# EAGLE library part BQ24202 (library components)
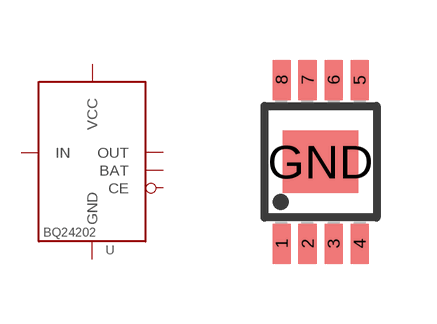
[diagram p10: symbol with the pads of MSOP8; footprint MSOP8]

Designator prefix -

## BQ24202  [MSOP8]
1  IN
2  VCC
4  GND
6  CE
7  BAT
8  OUT
GND  GND

## Footprint MSOP8 (pad centres in mm)
Micro Small Outline Package Grid .65mm
smd 0.45 x 1: 1 -0.975,-2.05; 2 -0.325,-2.05; 3 0.325,-2.05; 4 0.975,-2.05; 5 0.975,2.05; 6 0.325,2.05; 7 -0.325,2.05; 8 -0.975,2.05
smd 1.89 x 1.57: GND 0,0